# EAGLE library part LTC3891 (library kitt.ic)
Step-Down Controller
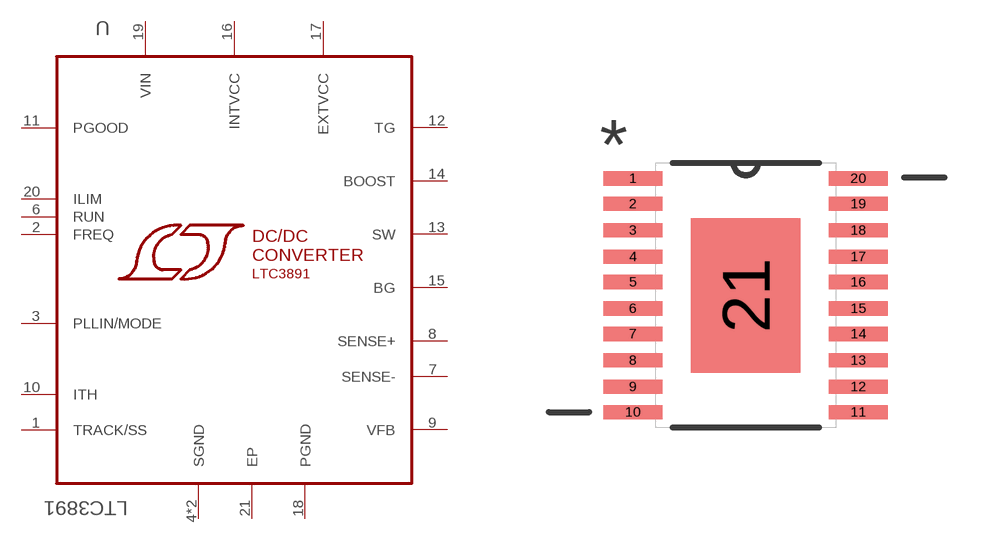
[diagram p9: symbol with the pads of SOP65P640X120-20N; footprint SOP65P640X120-20N]

Designator prefix U

## LTC3891 (AVAILABILITY: Good; DESCRIPTION: DC DC Cntrlr Single-OUT Sync Step Down 4V to 60V Input Automotive 20-Pin TSSOP EP; MF: Linear Technology; MP: LTC3891EFE#PBF; PACKAGE: TSSOP-20 Linear Technology; PRICE: 5.58 USD)  [SOP65P640X120-20N]
1  TRACK/SS  pas
2  FREQ  out
3  PLLIN/MODE  in
4  SGND  pas
5  SGND  pas
6  RUN  in
7  SENSE-  in
8  SENSE+  in
9  VFB  in
10  ITH  out
11  PGOOD  out
12  TG  in
13  SW  in
14  BOOST  in
15  BG  in
16  INTVCC  out
17  EXTVCC  in
18  PGND  pas
19  VIN  pwr
20  ILIM  in
21  EP  pas

## Footprint SOP65P640X120-20N (pad centres in mm)
smd 1.473 x 0.356: 1 -2.819,2.921; 2 -2.819,2.286; 3 -2.819,1.626; 4 -2.819,0.965; 5 -2.819,0.33; 6 -2.819,-0.33; 7 -2.819,-0.965; 8 -2.819,-1.626; 9 -2.819,-2.286; 10 -2.819,-2.921; 11 2.819,-2.921; 12 2.819,-2.286; 13 2.819,-1.626; 14 2.819,-0.965; 15 2.819,-0.33; 16 2.819,0.33; 17 2.819,0.965; 18 2.819,1.626; 19 2.819,2.286; 20 2.819,2.921
smd 2.743 x 3.861: 21 0,0